# EAGLE library part MCP1624 (library yapo)
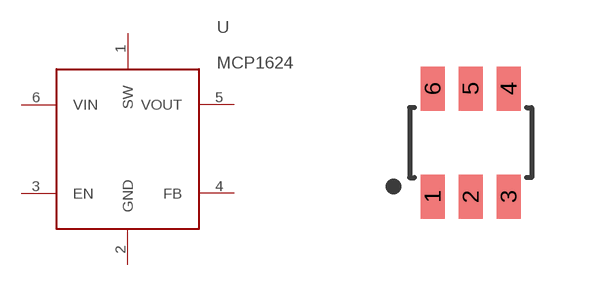
[diagram p7: symbol with the pads of SOT23-6; footprint SOT23-6]

Designator prefix -

## MCP1624  [SOT23-6]
1  SW
2  GND
3  EN
4  FB
5  VOUT
6  VIN

## Footprint SOT23-6 (pad centres in mm)
smd 0.6 x 1.1: 1 -0.95,-1.35; 2 0,-1.35; 3 0.95,-1.35; 4 0.95,1.35; 5 0,1.35; 6 -0.95,1.35